# Altium footprint library 1984824.PcbLib: 1 footprints
Each footprint in its own frame and in the unit in brackets; x right, y up, seen from the top. Pads: shape width x height; smd on the part's side, far side on the other; paste and mask are expansions set on the pad; w line width, h text height; cw(c..) or ccw(c..) is an arc to the next point about the centre after c.
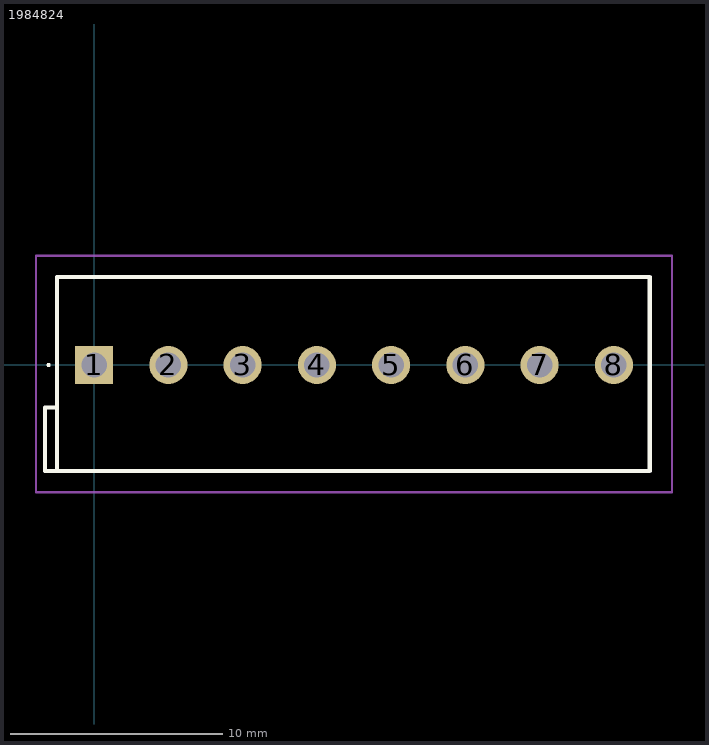
[diagram p0: the footprint, top view; thin cyan lines are the x and y axes]

## 1984824 [mm]
pads (8):
  rect 1.8x1.8 hole 1.2: 1(0,0)
  round 1.8 hole 1.2: 2(3.5,0) 3(7,0) 4(10.5,0) 5(14,0) 6(17.5,0) 7(21,0) 8(24.5,0)
Top Overlay:
  lines w0.1: -2.2,0 -2.2,0 ; -2.2,0 ccw(c-2.15,0) -2.1,0 ; -2.2,0 cw(c-2.15,0) -2.1,0 ; -2.2,0 -2.1,0 ; -2.1,0 -2.1,0
  lines w0.2: -1.75,-2 -2.32,-2 -2.32,-5 -1.75,-5 ; -1.75,-5 26.19,-5 26.19,4.15 -1.75,4.15 -1.75,-5
Mechanical 15:
  lines w0.1: -1.75,-2 -2.32,-2 -2.32,-5 -1.75,-5 ; -1.75,-5 26.25,-5 26.25,4.15 -1.75,4.15 -1.75,-5
Mechanical 20:
  lines w0.1: -2.75,-6 27.25,-6 27.25,5.15 -2.75,5.15 -2.75,-6